# Altium schematic symbol library Sensing Element.SchLib: 35 symbols
Pins are listed as number, name and electrical type; pins without a type are passive.

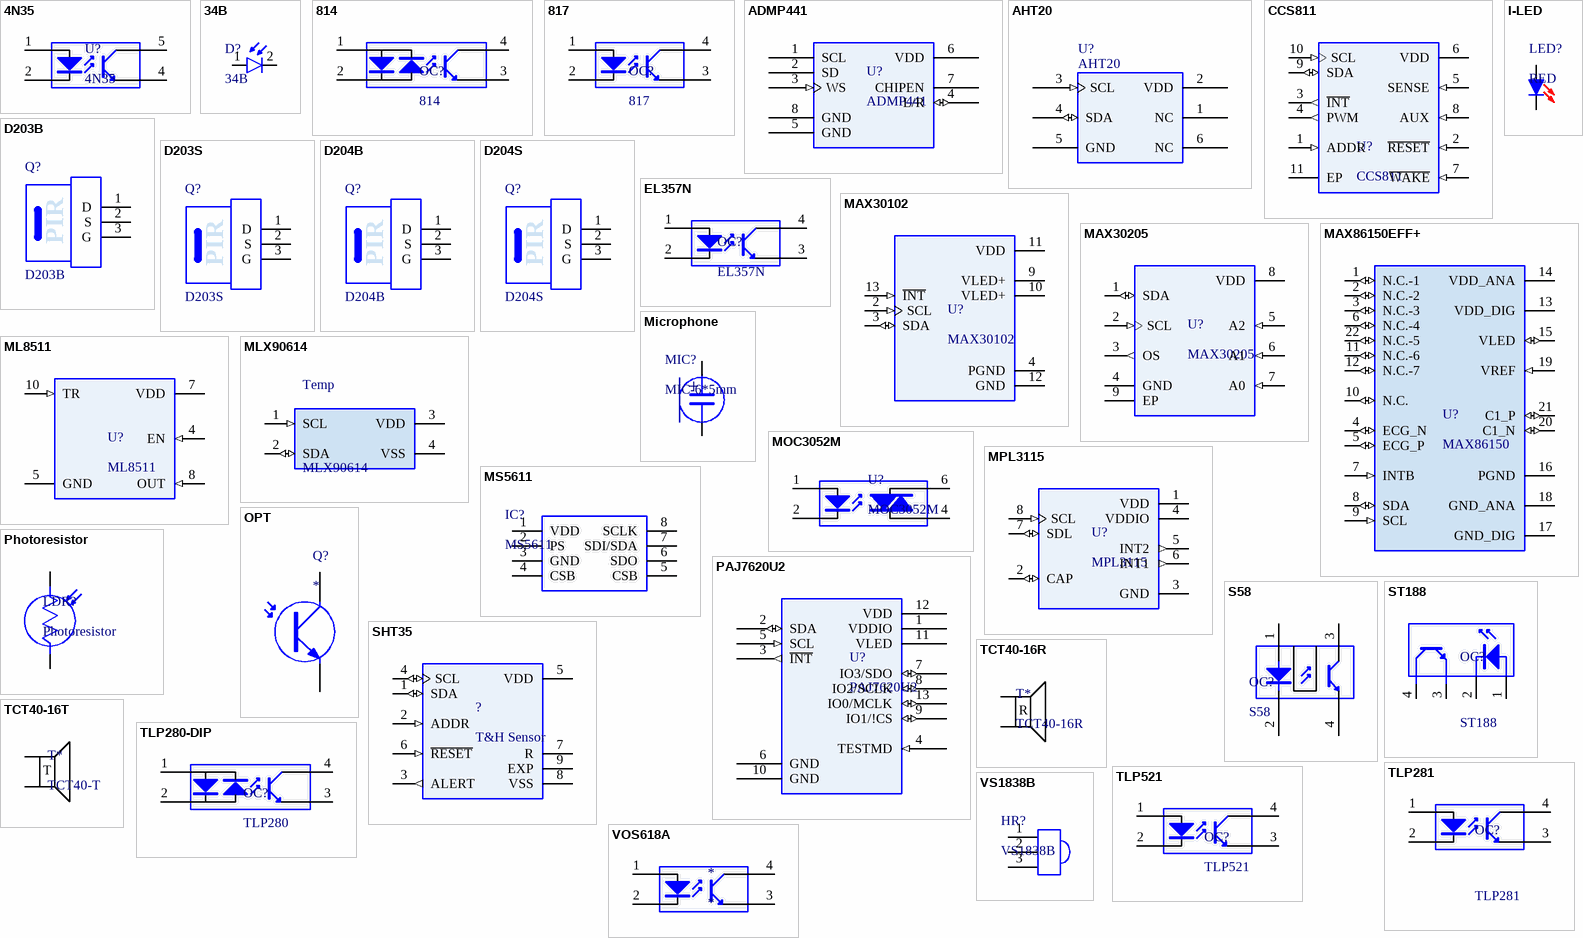
[diagram p0: symbols 4N35 to VS1838B]

## 4N35
designator U?
footprint MOC3052
pins: 1 A "Anode", 2 K "Cathode", 4 E "Emitter", 5 C "Collector"

## 34B
designator D?
Photodiode; Designer: Saeid Jorablo; Company: Personal; Project Name: Laser; Adding Date: 10/21/2009
footprint 34b
pins: 1 A, 2 K

## 814
designator OC?
AC Input Photocoupler
pins: 1 A "Anode", 2 K "Cathode", 3 E "Emitter", 4 C "Collector"

## 817
designator OC?
AC Input Photocoupler; BOM名称: 线性光耦; 版权归属: 源创客; 学习资源: www.ooocke.com
footprint DIP4-300 (4.6*7.6*3.8(长宽高）)
footprint PC817-SMD
pins: 1 A "Anode", 2 K "Cathode", 3 E "Emitter", 4 C "Collector"

## ADMP441
designator U?
footprint ADMP441
pins: 1 SCL, 2 SD (power), 3 WS (in), 4 L/R (io), 5 GND, 6 VDD, 7 CHIPEN, 8 GND

## AHT20
designator U?
footprint AHT20
pins: 1 NC, 2 VDD (power), 3 SCL (in), 4 SDA (io), 5 GND (power), 6 NC

## CCS811
designator U?
footprint CCS811
pins: 1 ADDR (in), 2 ~{RESET} (in), 3 ~{INT} (out), 4 PWM (out), 5 SENSE (in), 6 VDD (power), 7 ~{WAKE} (in), 8 AUX (in), 9 SDA (io), 10 SCL (in), 11 EP (power)

## D203B
designator Q?
Pyroelectric Infrared  Radial Sensor; Designer: Saeid Jorablo; Company: IPA CO.; Last Update Time: 2008/07/17; Value: D203B
footprint PIR-B Type (For D203B and D204B PIR Sensors)
pins: 1 D "Drain", 2 S "Source", 3 G "Ground"
text: PIR

## D203S
designator Q?
Pyroelectric Infrared  Radial Sensor; Designer: Saeid Jorablo; Company: IPA CO.; Last Update Time: 2008/07/17; Value: D203S
footprint PIR-S Type (For D203S and D204S PIR Sensors)
pins: 1 D "Drain", 2 S "Source", 3 G "Ground"
text: PIR

## D204B
designator Q?
Pyroelectric Infrared  Radial Sensor; Designer: Saeid Jorablo; Company: IPA CO.; Last Update Time: 2008/07/17; Value: D204B
footprint PIR-B Type (For D203B and D204B PIR Sensors)
pins: 1 D "Drain", 2 S "Source", 3 G "Ground"
text: PIR

## D204S
designator Q?
Pyroelectric Infrared  Radial Sensor; Designer: Saeid Jorablo; Company: IPA Co.; Last Update Time: 2008/07/17; Value: D204S
footprint PIR-S Type (For D203S and D204S PIR Sensors)
footprint PIR-B Type (For D203B and D204B PIR Sensors)
pins: 1 D "Drain", 2 S "Source", 3 G "Ground"
text: PIR

## EL357N
designator OC?
Linear optocoupler; BOM名称: 线性光耦; 版权归属: 源创客; 学习资源: www.ooocke.com
footprint DIP4-300 (4.6*7.6*3.8(长宽高）)
footprint SOP4_N (4.4*6.8*2.1mm（长宽高）)
footprint SOP4_L (4.4*6.8*2.1mm（长宽高）)
footprint SOP4_M (4.4*6.8*2.1mm（长宽高）)
pins: 1 A "Anode", 2 K "Cathode", 3 E "Emitter", 4 C "Collector"

## I-LED
designator LED?, comment RED
Infrared Transmitter Diode; BOM名称: 红外二极管; 版权归属: 源创客; 学习资源: www.ooocke.com
footprint I-LED-3MM
footprint I-LED-5MM
pins: 1 A, 2 K

## MAX30102
designator U?
footprint MAX30102
pins: 2 SCL (in), 3 SDA (io), 4 PGND (power), 9 VLED+ (power), 10 VLED+ (power), 11 VDD (power), 12 GND (power), 13 ~{INT} (in)

## MAX30205
designator U?
Body Temprature
footprint MAX30205 (Body Temp)
pins: 1 SDA (io), 2 SCL (in), 3 OS (out), 4 GND (power), 5 A2 (in), 6 A1 (in), 7 A0 (in), 8 VDD (power), 9 EP (power)

## MAX86150EFF+
designator U?, comment MAX86150
footprint MAX86150
pins: 1 N.C.-1 (io), 2 N.C.-2 (io), 3 N.C.-3 (io), 4 ECG_N (io), 5 ECG_P (io), 6 N.C.-4 (io), 7 INTB (in), 8 SDA (io), 9 SCL (in), 10 N.C. (io), 11 N.C.-6 (io), 12 N.C.-7 (io), 13 VDD_DIG (power), 14 VDD_ANA (power), 15 VLED (io), 16 PGND (power), 17 GND_DIG (power), 18 GND_ANA (power), 19 VREF (in), 20 C1_N (io), 21 C1_P (io), 22 N.C.-5 (io)

## Microphone
designator MIC?, comment MIC-6*5mm
Condenser microphone; BOM名称: 电容麦克风; 版权归属: 源创客; 学习资源: www.ooocke.com
footprint MIC-6*5.5mm (咪咪头)
footprint MIC-4.5*1.9 (咪咪头)
pins: 1, 2
text: +

## ML8511
designator U?
UV Sensor
footprint ML8511
pins: 4 EN (in), 5 GND (power), 7 VDD (power), 8 OUT (in), 10 TR (in)

## MLX90614
designator Temp
Temperature Sensor Digital, Infrared (IR) -40°C ~ 85°C 16 b TO-39; Auther: AmirHosein Yousefi
footprint MLX90614
pins: 1 SCL (in), 2 SDA (io), 3 VDD (power), 4 VSS (power)

## MOC3052M
designator U?
footprint MOC3052
pins: 1 A "Anode", 2 K "Cathode", 4 E "Emitter", 6 C "Collector"

## MPL3115
designator U?
Pressure Sensor
footprint MPL3115
pins: 1 VDD (power), 2 CAP (io), 3 GND (power), 4 VDDIO (power), 5 INT2 (out), 6 INT1 (out), 7 SDL (io), 8 SCL (in)

## MS5611
designator IC?
Barometric pressure sensor; BOM名称: 气压传感器; 版权归属: 源创客; 学习资源: www.ooocke.com
footprint MS5611 (气压传感芯片)
pins: 1 VDD, 2 PS, 3 GND, 4 CSB, 5 CSB, 6 SDO, 7 SDI/SDA, 8 SCLK

## OPT
designator Q?
Infrared Receiver; BOM名称: 红外接收管; 版权归属: 源创客; 学习资源: www.ooocke.com
footprint OPT-3MM (3mm红外接收管)
footprint OPT-5MM (5mm红外接收管)
pins: 1, 2

## PAJ7620U2
designator U?
footprint PAJ7620U2
pins: 1 VDDIO (power), 2 SDA (io), 3 ~{INT} (out), 4 TESTMD (in), 5 SCL (in), 6 GND, 7 IO3/SDO (io), 8 IO2/SCLK (io), 9 IO1/!CS (io), 10 GND, 11 VLED (power), 12 VDD (power), 13 IO0/MCLK (io)

## Photoresistor
designator LDR?
Photocell-RG5528
footprint Photocell (Footprint not found)
pins: 1, 2

## S58
designator OC?
Slot Photocoupler; BOM名称: 槽间光耦; 版权归属: 源创客; 学习资源: www.ooocke.com
footprint S58 (对射型光耦)
pins: 1 A, 2 K, 3 C, 4 E

## SHT35
designator ?, comment T&H Sensor
footprint SHT35
pins: 1 SDA (io), 2 ADDR (in), 3 ALERT (out), 4 SCL (io), 5 VDD (power), 6 ~{RESET} (in), 7 R, 8 VSS (power), 9 EXP

## ST188
designator OC?
Reflective Optocoupler; BOM名称: 反射型光耦; 版权归属: 源创客; 学习资源: www.ooocke.com
footprint ST188 (反射型光耦)
pins: 1 A "Anode", 2 K "Cathode", 3 E "Emitter", 4 C "Collector"

## TCT40-16R
designator T*
Ultrasonic Receiving Head 16mm
footprint TCT40-16 (超声波发射、接收头通用)
pins: 1 4, 2 5
text: R

## TCT40-16T
designator T*, comment TCT40-T
Ultrasonic Transmitter Head 16mm
footprint TCT40-16 (超声波发射、接收头通用)
pins: 1 4, 2 5
text: T

## TLP280-DIP
designator OC?, comment TLP280
GaAs Ired & Photo−Transistor
footprint DIP4-300 (4.6*7.6*3.8(³¤¿í¸ß£©)
pins: 1 A "Anode", 2 K "Cathode", 3 E "Emitter", 4 C "Collector"

## TLP281
designator OC?
Optocoupler; BOM名称: 光耦; 版权归属: 源创客; 学习资源: www.ooocke.com
footprint SOP4_N (4.4*6.8*2.1mm（长宽高）)
footprint SOP4_L (4.4*6.8*2.1mm（长宽高）)
footprint SOP4_M (4.4*6.8*2.1mm（长宽高）)
footprint DIP4-300 (Footprint not found)
pins: 1 A "Anode", 2 K "Cathode", 3 E "Emitter", 4 C "Collector"

## TLP521
designator OC?
Switching optocoupler; BOM名称: 开关光耦; 版权归属: 源创客; 学习资源: www.ooocke.com
footprint DIP4-300 (4.6*7.6*3.8(长宽高）)
footprint SOP4_N (4.4*6.8*2.1mm（长宽高）)
footprint SOP4_L (4.4*6.8*2.1mm（长宽高）)
footprint SOP4_M (4.4*6.8*2.1mm（长宽高）)
pins: 1 A "Anode", 2 K "Cathode", 3 E "Emitter", 4 C "Collector"

## VOS618A
designator *
footprint VOS618A-SSOP4
pins: 1 A "Anode", 2 K "Cathode", 3 E "Emitter", 4 C "Collector"

## VS1838B
designator HR?
Infrared receiver; BOM名称: 红外接收头; 版权归属: 源创客; 学习资源: www.ooocke.com
footprint VS1838B-A (一体红外接收头)
footprint VS1838B-B (一体红外接收头)
footprint VS1838B-B_H (卧式一体红外接收头)
footprint VS1838B-A_H (卧式一体红外接收头)
pins: 1 A "Anode", 2 K "Cathode", 3 E "Emitter"